# Altium integrated library TL074CD.IntLib: 1 symbol
Pins are listed as number, name and electrical type; pins without a type are passive.

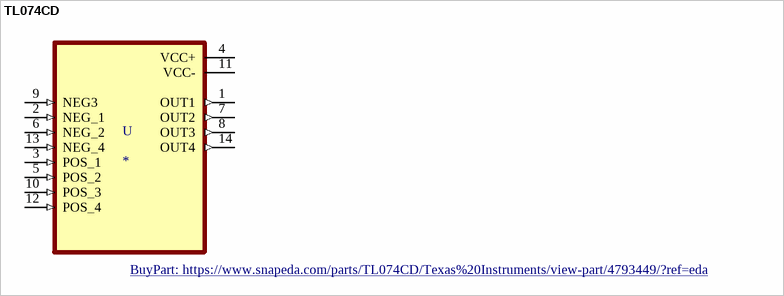
[diagram p0: symbol TL074CD]

## TL074CD
designator U
Quad Low-Noise JFET-Input General-Purpose Operational Amplifier 14-SOIC 0 to 70; MF: Texas Instruments; MP: TL074CD; Availability: Good; Mouser-Purchase-URL: https://snapeda.com/shop?store=Mouser&id=4793449; Value: *; SnapEDA_Link: https://www.snapeda.com/parts/TL074CD/Texas%20Instruments/view-part/4793449/?ref=snap; Texas_Instruments-Purchase-URL: https://snapeda.com/shop?store=Texas+Instruments&id=4793449; Price: None; Package: SOIC-14 Texas Instruments; DigiKey-Purchase-URL: https://snapeda.com/shop?store=DigiKey&id=4793449; BuyPart: https://www.snapeda.com/parts/TL074CD/Texas%20Instruments/view-part/4793449/?ref=eda
footprint SOIC127P600X175-14N
pins: 1 OUT1 (out), 2 NEG_1 (in), 3 POS_1 (in), 4 VCC+ (power), 5 POS_2 (in), 6 NEG_2 (in), 7 OUT2 (out), 8 OUT3 (out), 9 NEG3 (in), 10 POS_3 (in), 11 VCC- (power), 12 POS_4 (in), 13 NEG_4 (in), 14 OUT4 (out)